# EAGLE library part ISP-6-PIN (library talons-connectors)
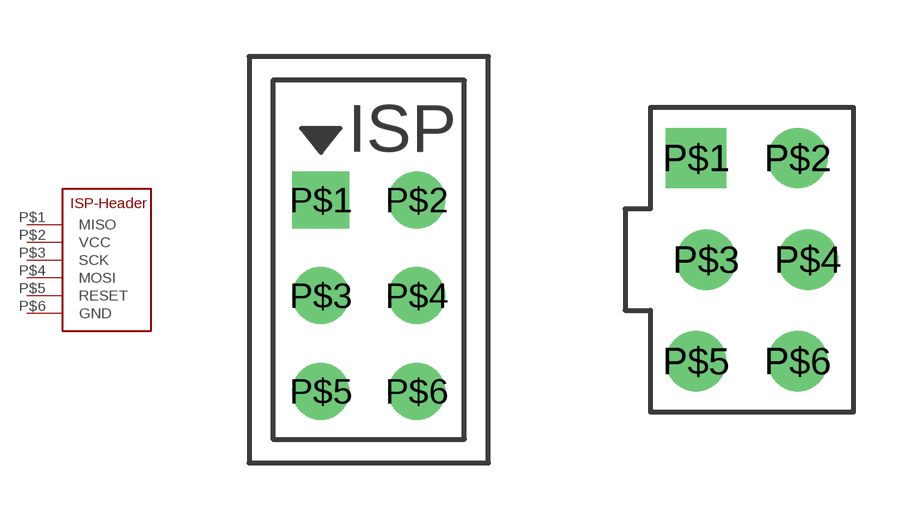
[diagram p2: symbol with the pads of ISP-6PIN-PERMANENT; footprints ISP-6PIN-PERMANENT, ISP-6PIN-STAGGERED]

Designator prefix -

## ISP-6-PINPERMANENT  [ISP-6PIN-PERMANENT]
P$1  MISO
P$2  VCC  pwr
P$3  SCK
P$4  MOSI
P$5  RESET
P$6  GND  pwr

## ISP-6-PINSTAGGERED  [ISP-6PIN-STAGGERED]
Pads as for ISP-6PIN-PERMANENT

## Footprint ISP-6PIN-PERMANENT (pad centres in mm)
drill 1 square: P$1 -1.27,2.54
drill 1: P$2 1.27,2.54; P$3 -1.27,0; P$4 1.27,0; P$5 -1.27,-2.54; P$6 1.27,-2.54

## Footprint ISP-6PIN-STAGGERED (pad centres in mm)
drill 1 square: P$1 -1.397,2.54
drill 1: P$2 1.143,2.54; P$3 -1.143,0; P$4 1.397,0; P$5 -1.397,-2.54; P$6 1.143,-2.54